# Altium schematic symbol library altium-designer-library.SchLib: 14 symbols
Pins are listed as number, name and electrical type; pins without a type are passive.

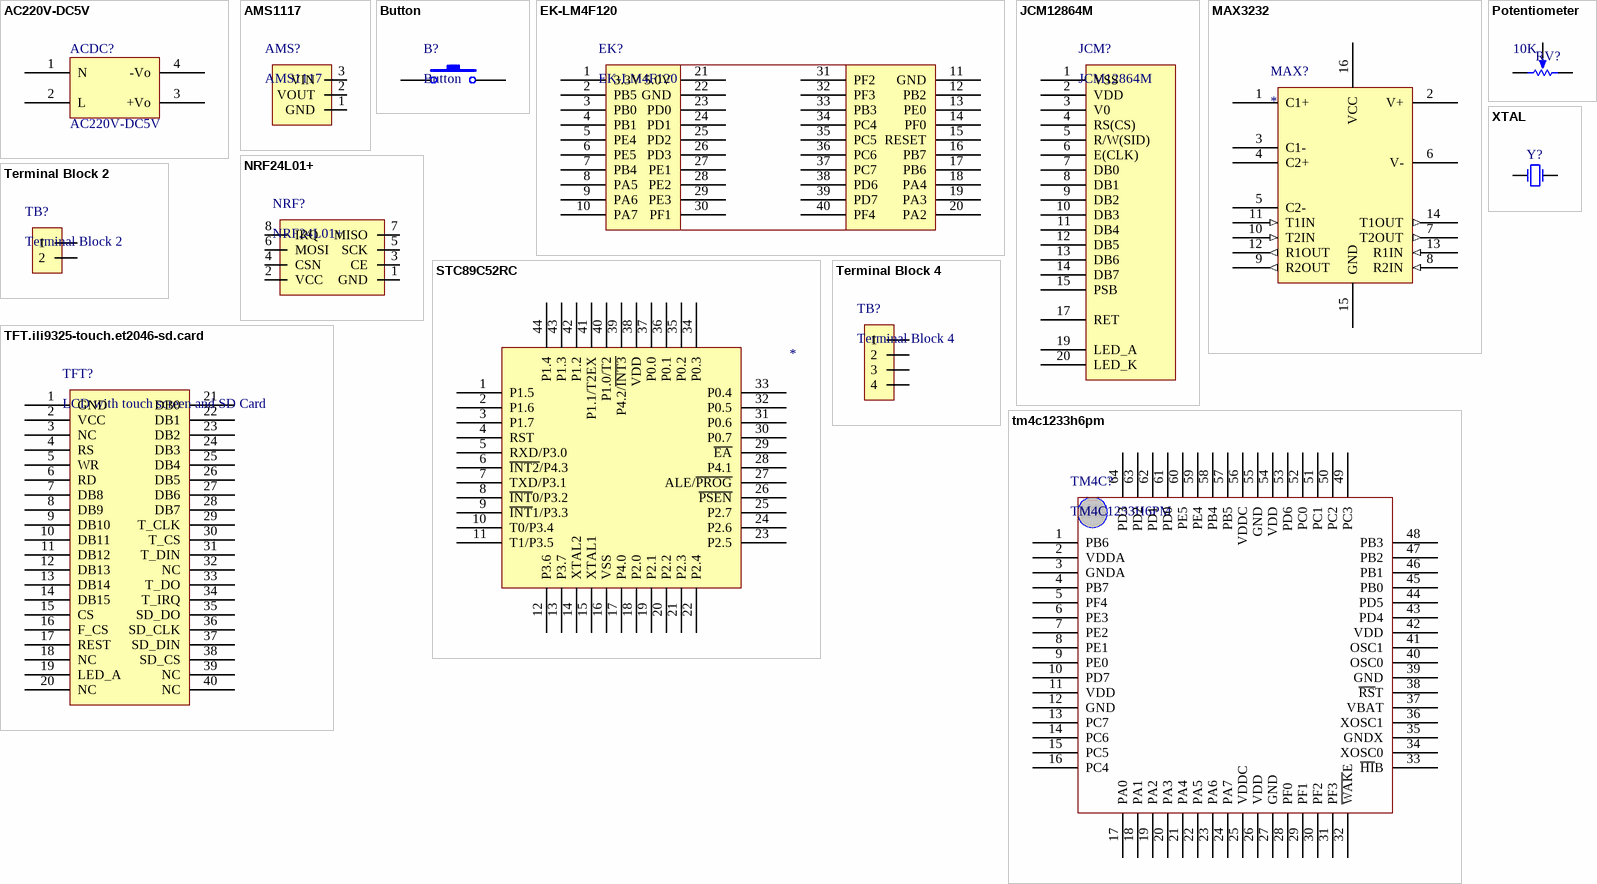
[diagram p0: symbols AC220V-DC5V to XTAL]

## AC220V-DC5V
designator ACDC?
ACDC
footprint AC220V-DC5V
pins: 1 N , 2 L, 3 +Vo, 4 -Vo

## AMS1117
designator AMS?
footprint SOT223-4M (SOT223, 4-Leads, Body 6.5x3.5mm, Pitch 2.3mm, Lead Span 7mm, IPC Low Density)
pins: 1 GND, 2 VOUT, 3 VIN, 4 hidden

## Button
designator B?
footprint Button
pins: 1, 2, 3, 4

## EK-LM4F120
designator EK?
footprint EK-LM4F120
pins: 1 3.3V, 2 PB5, 3 PB0, 4 PB1, 5 PE4, 6 PE5, 7 PB4, 8 PA5, 9 PA6, 10 PA7, 11 GND, 12 PB2, 13 PE0, 14 PF0, 15 RESET, 16 PB7, 17 PB6, 18 PA4, 19 PA3, 20 PA2, 21 5.0V, 22 GND, 23 PD0, 24 PD1, 25 PD2, 26 PD3, 27 PE1, 28 PE2, 29 PE3, 30 PF1, 31 PF2, 32 PF3, 33 PB3, 34 PC4, 35 PC5, 36 PC6, 37 PC7, 38 PD6, 39 PD7, 40 PF4

## JCM12864M
designator JCM?
footprint HDR1X20-R (Connector; Header; 20 Position)
pins: 1 VSS, 2 VDD, 3 V0, 4 RS(CS), 5 R/W(SID), 6 E(CLK), 7 DB0, 8 DB1, 9 DB2, 10 DB3, 11 DB4, 12 DB5, 13 DB6, 14 DB7, 15 PSB, 16 NC hidden, 17 RET, 18 NC hidden, 19 LED_A, 20 LED_K

## MAX3232
designator MAX?
footprint SOP127P600X175-16N (SOP, 16-Leads, Body 10.0x4.0mm (max), Pitch 1.27mm, IPC Medium Density)
pins: 1 C1+, 2 V+, 3 C1-, 4 C2+, 5 C2-, 6 V-, 7 T2OUT (out), 8 R2IN (in), 9 R2OUT (out), 10 T2IN (in), 11 T1IN (in), 12 R1OUT (out), 13 R1IN (in), 14 T1OUT (out), 15 GND (power), 16 VCC (power)

## NRF24L01+
designator NRF?
footprint NRF24L01+
footprint NRF24L01+MINI
pins: 1 GND, 2 VCC, 3 CE, 4 CSN, 5 SCK, 6 MOSI, 7 MISO, 8 IRQ

## Potentiometer
designator RV?  Resistance: 10K  (hidden comment: Potentiometer)
footprint Potentiometer
pins: 1 TOP, 2 TAP, 3 BOT

## STC89C52RC
designator ?
footprint LQFP44
pins: 1 P1.5, 2 P1.6, 3 P1.7, 4 RST, 5 RXD/P3.0, 6 ~{INT2}/P4.3, 7 TXD/P3.1, 8 ~{INT}0/P3.2, 9 ~{INT}1/P3.3, 10 T0/P3.4, 11 T1/P3.5, 12 P3.6, 13 P3.7, 14 XTAL2, 15 XTAL1, 16 VSS, 17 P4.0, 18 P2.0, 19 P2.1, 20 P2.2, 21 P2.3, 22 P2.4, 23 P2.5, 24 P2.6, 25 P2.7, 26 ~{PSEN}, 27 ALE/~{PROG}, 28 P4.1, 29 ~{EA}, 30 P0.7, 31 P0.6, 32 P0.5, 33 P0.4, 34 P0.3, 35 P0.2, 36 P0.1, 37 P0.0, 38 VDD, 39 P4.2/~{INT3}, 40 P1.0/T2, 41 P1.1/T2EX, 42 P1.2, 43 P1.3, 44 P1.4

## Terminal Block 2
designator TB?
footprint Terminal Block 2
pins: 1, 2

## Terminal Block 4
designator TB?
footprint Terminal Block 4
pins: 1, 2, 3, 4

## TFT.ili9325-touch.et2046-sd.card
designator TFT?, comment LCD with touch screen and SD Card
footprint TFT.ili9325-touch.et2046-sd.card
pins: 1 GND, 2 VCC, 3 NC, 4 RS, 5 WR, 6 RD, 7 DB8, 8 DB9, 9 DB10, 10 DB11, 11 DB12, 12 DB13, 13 DB14, 14 DB15, 15 CS, 16 F_CS, 17 REST, 18 NC, 19 LED_A, 20 NC, 21 DB0, 22 DB1, 23 DB2, 24 DB3, 25 DB4, 26 DB5, 27 DB6, 28 DB7, 29 T_CLK, 30 T_CS, 31 T_DIN, 32 NC, 33 T_DO, 34 T_IRQ, 35 SD_DO, 36 SD_CLK, 37 SD_DIN, 38 SD_CS, 39 NC, 40 NC

## tm4c1233h6pm
designator TM4C?, comment TM4C1233H6PM
pins: 1 PB6, 2 VDDA, 3 GNDA, 4 PB7, 5 PF4, 6 PE3, 7 PE2, 8 PE1, 9 PE0, 10 PD7, 11 VDD, 12 GND, 13 PC7, 14 PC6, 15 PC5, 16 PC4, 17 PA0, 18 PA1, 19 PA2, 20 PA3, 21 PA4, 22 PA5, 23 PA6, 24 PA7, 25 VDDC, 26 VDD, 27 GND, 28 PF0, 29 PF1, 30 PF2, 31 PF3, 32 ~{WAK}E, 33 ~{HI}B, 34 XOSC0, 35 GNDX, 36 XOSC1, 37 VBAT, 38 ~{RS}T, 39 GND, 40 OSC0, 41 OSC1, 42 VDD, 43 PD4, 44 PD5, 45 PB0, 46 PB1, 47 PB2, 48 PB3, 49 PC3, 50 PC2, 51 PC1, 52 PC0, 53 PD6, 54 VDD, 55 GND, 56 VDDC, 57 PB5, 58 PB4, 59 PE4, 60 PE5, 61 PD0, 62 PD1, 63 PD2, 64 PD3

## XTAL
designator Y?  (value not drawn)
Crystal Oscillator; Published: 8-Jun-2000; LatestRevisionDate: 17-Jul-2002; LatestRevisionNote: Re-released for DXP Platform.; PackageReference: R38; Publisher: Altium Limited
footprint XTAL
simulation model XTAL (Spice Subcircuit)
footprint XTAL-mini
pins: 1 OSC1, 2 OSC2